# Altium footprint library TSDM_2017.PcbLib: 11 footprints
Each footprint in its own frame and in the unit in brackets; x right, y up, seen from the top. Pads: shape width x height; smd on the part's side, far side on the other; paste and mask are expansions set on the pad; w line width, h text height; cw(c..) or ccw(c..) is an arc to the next point about the centre after c.
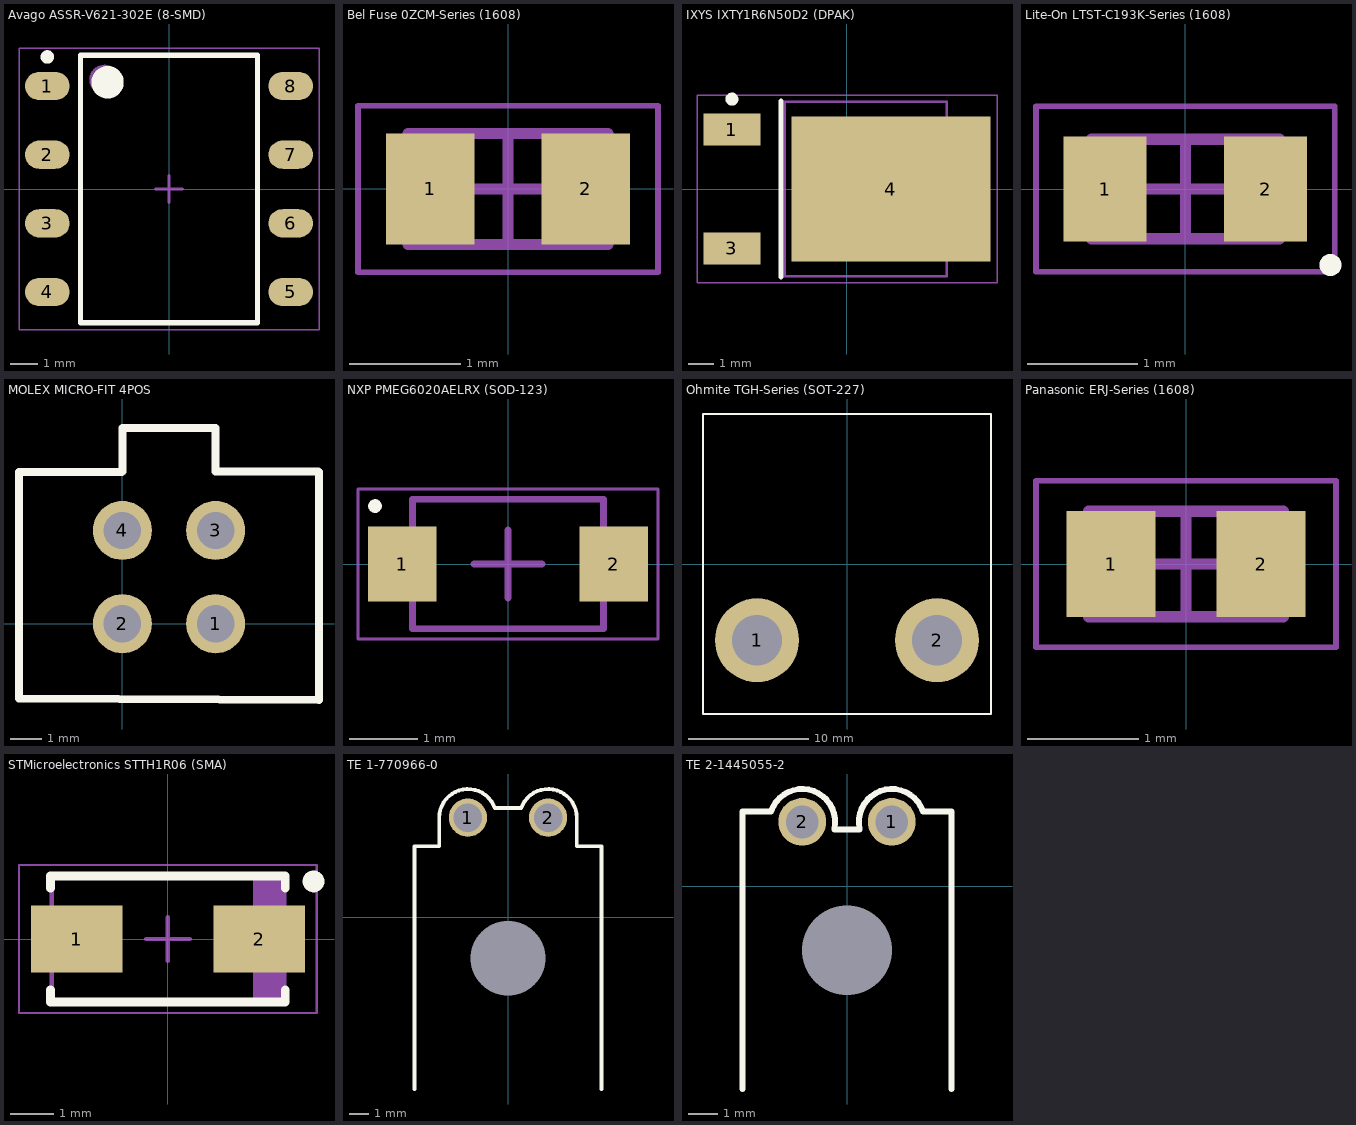
[diagram p0: the footprints below, top view; thin cyan lines are the x and y axes]

## Avago ASSR-V621-302E (8-SMD) [mm] "Dual Photovoltaic MOSFET Driver"
height 3.7
pads (8):
  oval 1.65x1.05 smd: 1(-4.5,3.81) 2(-4.5,1.27) 3(-4.5,-1.27) 4(-4.5,-3.81) 5(4.5,-3.81) 6(4.5,-1.27) 7(4.5,1.27) 8(4.5,3.81)
Top Overlay:
  circle w0.6: c-2.275,3.95 r0.3
  circle w0.25: c-4.5,4.885 r0.125
  lines w0.2: -3.275,-4.95 3.275,-4.95 3.275,4.95 -3.275,4.95 -3.275,-4.95
Mechanical 13:
  circle w0.1: c-2.4,4.05 r0.5
  lines w0.1: -3.3,-4.95 3.3,-4.95 3.3,4.95 -3.3,4.95 -3.3,-4.95
Mechanical 15:
  lines w0.05: -5.55,-5.2 5.55,-5.2 5.55,5.2 -5.55,5.2 -5.55,-5.2
  lines w0.1: -0.5,0 0.5,0 ; 0,-0.5 0,0.5
3D body: height 3.7, standoff 0.02, extent -3.3,-4.95 3.3,4.95

## Bel Fuse 0ZCM-Series (1608) [mm] "Chip PTC Fuse"
height 0.75
pads (2):
  rect 0.8x1 smd: 1(-0.7,0) 2(0.7,0)
Mechanical 13:
  lines w0.1: -0.9,-0.5 -0.9,0.5 0.9,0.5 0.9,-0.5 -0.9,-0.5
Mechanical 15:
  lines w0.05: -1.35,-0.75 -1.35,0.75 1.35,0.75 1.35,-0.75 -1.35,-0.75
  lines w0.1: -0.5,0 0.5,0 ; 0,-0.5 0,0.5
3D body: height 0.75, standoff 0, extent -0.9,-0.5 -0.65,0.5
3D body: height 0.75, standoff 0, extent 0.65,-0.5 0.9,0.5
3D body "0ZCM.stp": height 0.76, standoff 0, extent -0.902,-0.495 0.902,0.495

## IXYS IXTY1R6N50D2 (DPAK) [mm] "500V Depletion-Mode N-MOSFET"
height 2.4
pads (3):
  rect 2.2x1.25 smd: 1(-4.45,2.3) 3(-4.45,-2.3)
  rect 7.7x5.6 smd: 4(1.7,0)
Top Overlay:
  circle w0.25: c-4.45,3.475 r0.125
  lines w0.2: -2.55,-3.4 -2.55,3.4
Mechanical 13:
  lines w0.1: -2.4,-3.375 -2.4,3.375 3.85,3.375 3.85,-3.375 -2.4,-3.375
Mechanical 15:
  lines w0.05: -5.8,-3.625 -5.8,3.625 5.8,3.625 5.8,-3.625 -5.8,-3.625
  lines w0.1: -0.5,0 0.5,0 ; 0,-0.5 0,0.5
3D body: height 2.4, standoff 0, extent -2.4,-3.375 3.85,3.375

## Lite-On LTST-C193K-Series (1608) [mm] "Chip LED"
height 0.35
pads (2):
  rect 0.75x0.95 smd: 1(-0.725,0) 2(0.725,0)
Top Overlay:
  circle w0.1: c1.312,-0.687 r0.05
Mechanical 13:
  lines w0.1: -0.85,-0.45 0.85,-0.45 0.85,0.45 -0.85,0.45 -0.85,-0.45
Mechanical 15:
  lines w0.05: -1.35,-0.75 1.35,-0.75 1.35,0.75 -1.35,0.75 -1.35,-0.75
  lines w0.1: -0.45,0 0.45,0 ; 0,-0.45 0,0.45
3D body: height 0.35, standoff 0, extent 0.55,-0.45 0.85,0.45
3D body: height 0.35, standoff 0, extent -0.85,-0.45 -0.55,0.45
3D body: height 0.35, standoff 0, extent -0.55,-0.45 0.55,0.45

## MOLEX MICRO-FIT 4POS [mm] "Connector Header Through Hole 4 position 600V 0.118\" (3.00mm)"
height 9.91
pads (4):
  round 1.9 hole 1.2: 1(3,0) 2(0,0) 3(3,3) 4(0,3)
Top Overlay:
  lines w0.254: -0.025,4.875 -3.325,4.875 -3.325,-2.4 6.325,-2.458 6.325,4.875 ; 0,4.9 0,6.3 3,6.3 3,4.9 4.3,4.9 6.3,4.9
3D body: height 0.25, standoff 0, extent -2.9,3.1 -2.9,3.1
3D body: height 0.25, standoff 0, extent -1.663,4.638 -1.663,4.638
3D body "430450412.stp": height 9.92, standoff -3.17, extent -3.65,-2.5 6.5,6.27

## NXP PMEG6020AELRX (SOD-123) [mm] "60V 2A Schottky Diode"
height 1.1
pads (2):
  rect 1x1.1 smd: 1(-1.55,0) 2(1.55,0)
Top Overlay:
  circle w0.1: c-1.95,0.85 r0.05
Mechanical 13:
  lines w0.1: -1.4,-0.95 -1.4,0.95 1.4,0.95 1.4,-0.95 -1.4,-0.95
Mechanical 15:
  lines w0.05: -2.2,-1.1 -2.2,1.1 2.2,1.1 2.2,-1.1 -2.2,-1.1
  lines w0.1: -0.5,0 0.5,0 ; 0,-0.5 0,0.5
3D body: height 1.1, standoff 0, extent -1.4,-0.95 1.4,0.95

## Ohmite TGH-Series (SOT-227) [mm] "Thick Film Power Resistor"
height 12
pads (2):
  round 7 hole 4.2: 1(-7.5,-6.35) 2(7.5,-6.35)
Top Overlay:
  lines w0.2: -12,-12.5 12,-12.5 12,12.5 -12,12.5 -12,-12.5
3D body "User Library-TGHLV10R0JEConfig_ 1.STEP": height 12, standoff 0, extent -19.05,-12.45 19.05,12.45

## Panasonic ERJ-Series (1608) [mm] "Thick Film Chip Resistor"
height 0.55
pads (2):
  rect 0.8x0.95 smd: 1(-0.675,0) 2(0.675,0)
Mechanical 13:
  lines w0.1: -0.875,-0.475 -0.875,0.475 0.875,0.475 0.875,-0.475 -0.875,-0.475
Mechanical 15:
  lines w0.05: -1.35,-0.75 -1.35,0.75 1.35,0.75 1.35,-0.75 -1.35,-0.75
  lines w0.1: -0.475,0 0.475,0 ; 0,-0.475 0,0.475
3D body "RC0603N.stp": height 0.71, standoff 0, extent -0.8,-0.4 0.8,0.4

## STMicroelectronics STTH1R06 (SMA) [mm] "600V 1A Diode"
height 2.45
pads (2):
  rect 2.1x1.55 smd: 1(-2.1,0) 2(2.1,0)
Top Overlay:
  circle w0.25: c3.35,1.325 r0.125
  lines w0.2: -2.7,-1.175 -2.7,-1.45 2.7,-1.45 2.7,-1.175 ; -2.7,1.175 -2.7,1.45 2.7,1.45 2.7,1.175
Mechanical 13:
  rectangle: 1.955,-1.45 2.675,1.45
  lines w0.1: -2.675,-1.45 2.675,-1.45 2.675,1.45 -2.675,1.45 -2.675,-1.45
Mechanical 15:
  lines w0.05: -3.425,-1.7 3.425,-1.7 3.425,1.7 -3.425,1.7 -3.425,-1.7
  lines w0.1: -0.5,0 0.5,0 ; 0,-0.5 0,0.5
3D body "SMA.stp": height 2.64, standoff 0, extent -2.35,-1.448 2.349,1.448

## TE 1-770966-0 [mm] "Mini-Universal MATE-N-LOK 2-Pin Female Connector"
height 7.8
pads (3):
  round 2 hole 1.5: 1(-2.1,5.2) 2(2.1,5.2)
  round 0 hole 3.9: ""(0,-2.15)
Top Overlay:
  lines w0.2: -4.9,-9 -4.9,3.7 -3.6,3.7 -3.6,5.2 cw(c-2.1,5.2) -0.686,5.701 ; -0.675,5.7 0.675,5.7 ; 0.686,5.701 cw(c2.1,5.2) 3.6,5.2 3.6,3.7 4.9,3.7 4.9,-9
3D body "c-0770966-10-f-3d.stp": height 7.75, standoff -5.25, extent -6.225,-9.003 4.926,5.703

## TE 2-1445055-2 [mm] "Micro MATE-N-LOK 2-Pin Female Connector"
height 7.9
pads (3):
  round 1.6 hole 1.1: 1(1.5,2.15) 2(-1.5,2.15)
  round 0 hole 3: ""(0,-2.15)
Top Overlay:
  lines w0.2: -3.5,-6.8 -3.5,2.5 -2.55,2.5 ; -2.538,2.513 cw(c-1.5,2.15) -0.427,1.906 ; -0.425,1.9 0.425,1.9 ; 0.427,1.906 cw(c1.5,2.15) 2.538,2.513 ; 2.55,2.5 3.5,2.5 3.5,-6.8
3D body "c-2-1445055-2-b-3d.stp": height 5.73, standoff -3.45, extent -5.07,-6.801 5.07,2.8